# Altium schematic symbol library capacitiveTouchLibrary.SchLib: 1 symbol
Pins are listed as number, name and electrical type; pins without a type are passive.

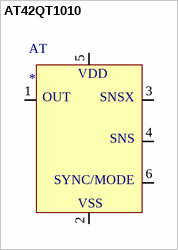
[diagram p0: symbol AT42QT1010]

## AT42QT1010
designator AT
pins: 1 OUT, 2 VSS, 3 SNSK, 4 SNS, 5 VDD, 6 SYNC/MODE
text: SNSX